# Altium integrated library Linear Technology Power Management Power Control.IntLib: 661 symbols (part 1 of 43)
Pins are listed as number, name and electrical type; pins without a type are passive.

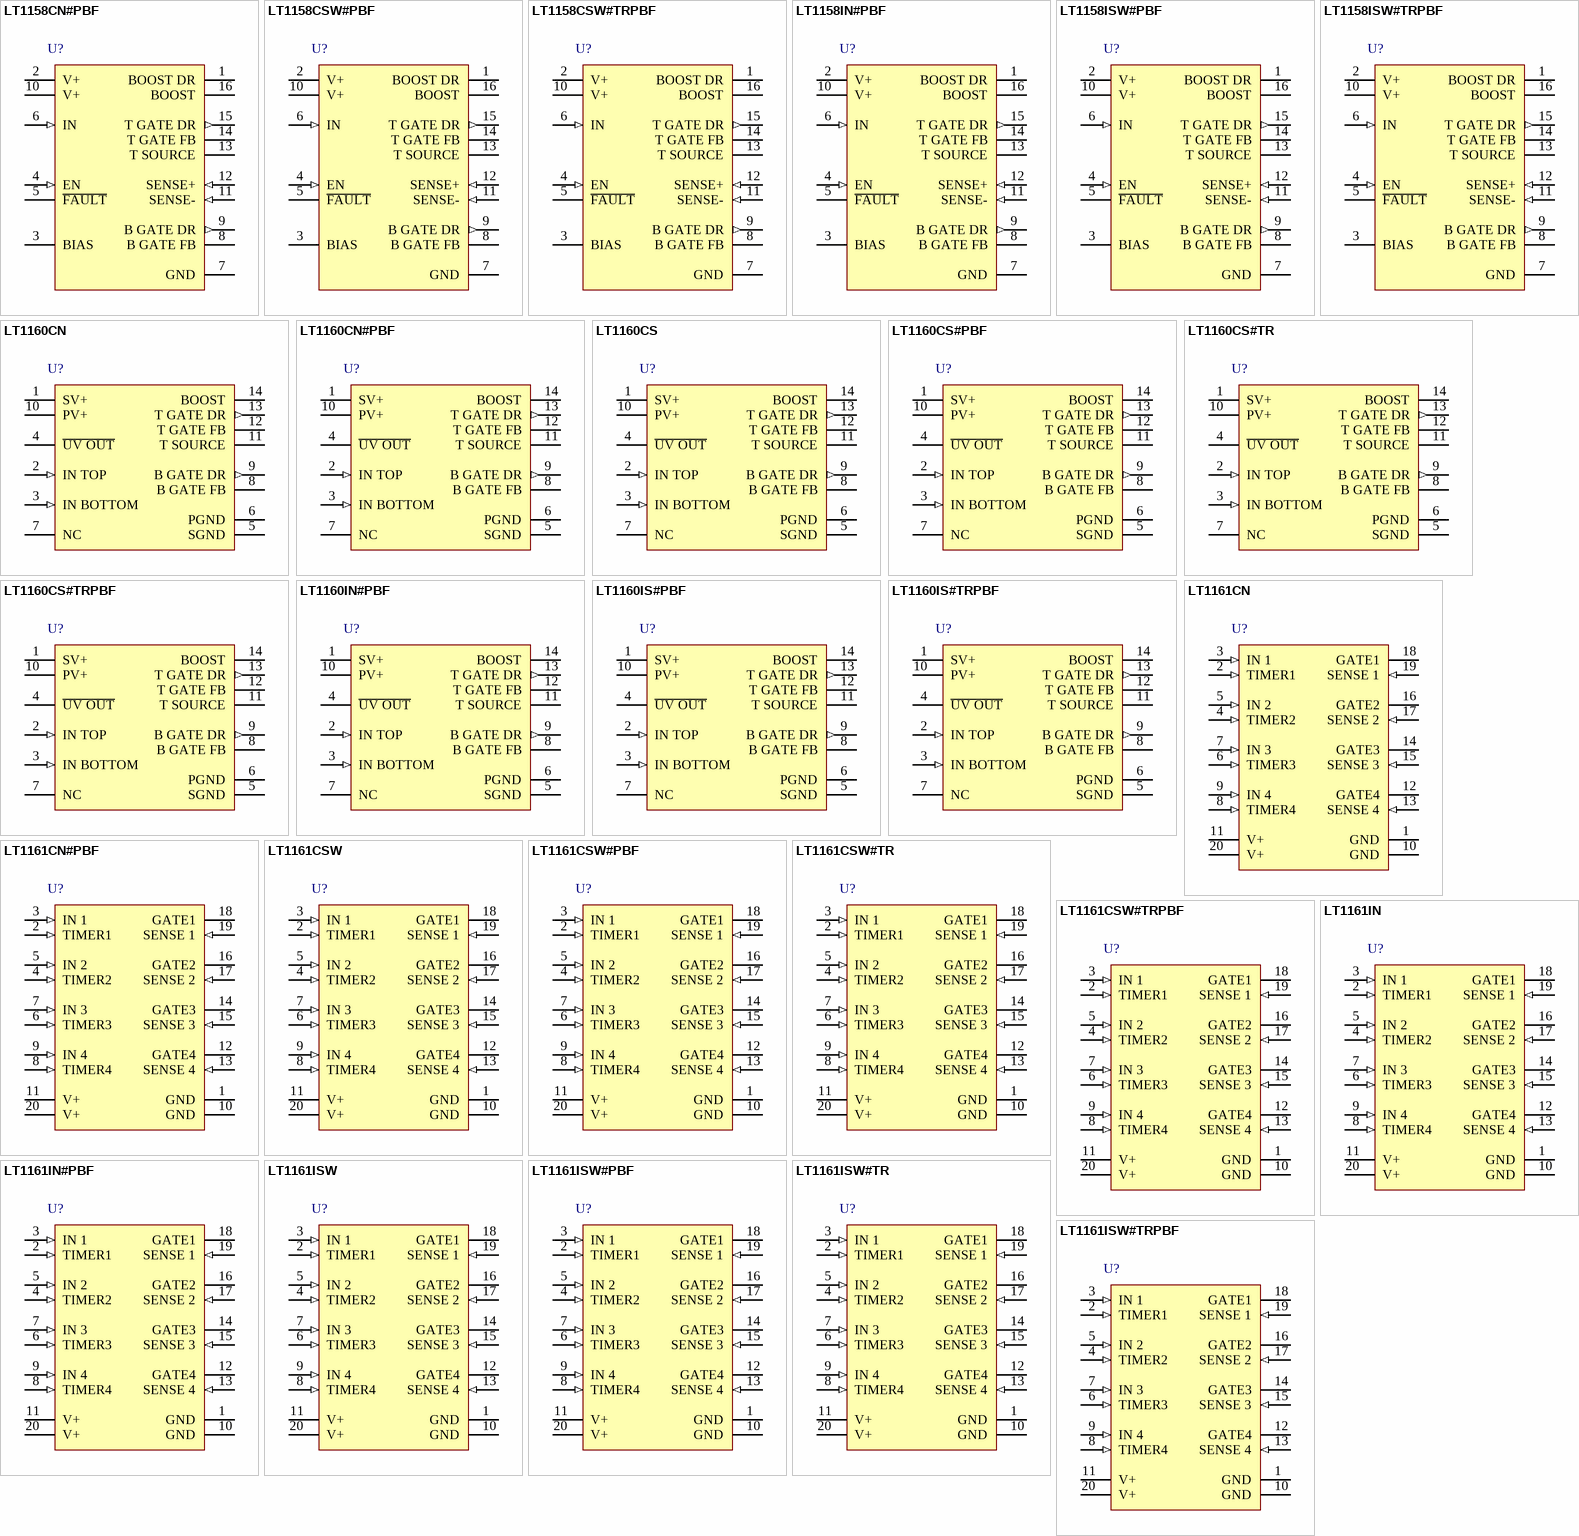
[diagram p0: symbols LT1158CN#PBF to LT1161ISW#TRPBF]

## LT1158CN#PBF
designator U?
On-Chip Charge Pump, Drives N-Channel MOSFET, 4.5 to 36 V Vin, 16-pin DIP (N-16), -40 to 85 degC, Pb-Free; Manufacturer: Linear Technology; PartNumber: LT1158CN#PBF; DatasheetVersion: Rev. B; PackageVersion: Rev. I, 07/2011; PackageReference: N-16; PackageDescription: 16-Pin PDIP, Body 19.56 x 6.48 mm, Pitch 2.54 mm; Supplier 1: Digi-Key; Supplier Part Number 1: LT1158CN#PBF-ND; Supplier 2: Newark; Supplier Part Number 2: 57M2239; RoHS: TRUE; Mounting Technology: Through Hole; ComponentLink1Description: Manufacturer URL; ComponentLink1URL: http://www.linear.com/; ComponentLink2Description: Datasheet; ComponentLink2URL: http://cds.linear.com/docs/en/datasheet/1158fb.pdf; ComponentLink3Description: Package Specification; ComponentLink3URL: http://cds.linear.com/docs/en/packaging/05081510_I_N16.pdf
footprint LT-N-16 (DIP, 16-Leads, Body 19.56x6.48mm, Pitch 2.54mm)
pins: 1 BOOST DR (power) "Recharges and clamps the bootstrap capacitor to 14.5V higher than pin 13 via an external diode.", 2 V+ (power) "Main supply pin; must be closely decoupled to the ground pin 7.", 3 BIAS "Decouple point for the internal 2.6V bias generator. Pin 3 cannot have any external DC loading.", 4 EN (in) "When left open, the LT1158 operates normally. Pulling pin 4 low holds both MOSFETs off regardless of the input state.", 5 ~{FAULT} (oc) "Open collector NPN output which turns on when V12 - V11 exceeds the fault conduction threshold.", 6 IN (in) "Taking pin 6 high turns the top MOSFET on and bottom MOSFET off; pin 6 low reverses these states. An input latch captures each low state, ignoring an ensuing high until pin 13 has gone below 2.6V.", 7 GND (power), 8 B GATE FB "Must connect directly to the bottom power MOSFET gate. The top MOSFET turn-on is inhibited until pin 8 has discharged to 1.5V. A hold-on current source also feeds the bottom gate via pin 8.", 9 B GATE DR (out) "The high current drive point for the bottom MOSFET. When a gate resistor is used, it is inserted between pin 9 and the gate of the MOSFET.", 10 V+ (power) "Bottom side driver supply; must be connected to the same supply as pin 2.", 11 SENSE- (in) "The floating reference for the current limit comparator. Connects to the low side of a current shunt or Kelvin lead of a current-sensing MOSFET. When pin 11 is within 1.2V of V+, current limit is inhibited.", 12 SENSE+ (in) "Connects to the high side of the current shunt or sense lead of a current-sensing MOSFET. A built-in offset between pins 11 and 12 in conjunction with RSENSE sets the top MOSFET short-circuit current.", 13 T SOURCE "Top side driver return; connects to MOSFET source and low side of the bootstrap capacitor.", 14 T GATE FB "Must connect directly to the top power MOSFET gate. The bottom MOSFET turn-on is inhibited until V14 - V13 has discharged to 1.75V. An on-chip charge pump also feeds the top gate via pin 14.", 15 T GATE DR (out) "The high current drive point for the top MOSFET. When a gate resistor is used, it is inserted between pin 15 and the gate of the MOSFET.", 16 BOOST "Top side driver supply; connects to the high side of the bootstrap capacitor and to a diode either from supply (V+ < 10V) or from pin 1 (V+ > 10V)."

## LT1158CSW#PBF
designator U?
On-Chip Charge Pump, Drives N-Channel MOSFET, 4.5 to 36 V Vin, 16-pin SOIC (SW-16), -40 to 85 degC, Pb-Free; Manufacturer: Linear Technology; PartNumber: LT1158CSW#PBF; DatasheetVersion: Rev. B; PackageVersion: Jun-10; PackageReference: SW-16; PackageDescription: 16-Pin Plastic Small Outline, Body 10.30 x 7.49 mm, Pitch 1.27 mm; Supplier 1: Digi-Key; Supplier Part Number 1: LT1158CSW#PBF-ND; Supplier 2: Farnell; Supplier Part Number 2: 1273473; Supplier 3: Newark; Supplier Part Number 3: 57M2241; RoHS: TRUE; Mounting Technology: Surface Mount; ComponentLink1Description: Manufacturer URL; ComponentLink1URL: http://www.linear.com/; ComponentLink2Description: Datasheet; ComponentLink2URL: http://cds.linear.com/docs/en/datasheet/1158fb.pdf; ComponentLink3Description: Package Specification; ComponentLink3URL: http://www.linear.com/docs/en/packaging/SO_16_05-08-1620.pdf
footprint LT-SW-16_N (SOIC, 16-Leads, Body 10.3x7.49mm, Pitch 1.27mm, IPC Medium Density)
footprint LT-SW-16_L (SOIC, 16-Leads, Body 10.3x7.49mm, Pitch 1.27mm, IPC High Density)
footprint LT-SW-16_M (SOIC, 16-Leads, Body 10.3x7.49mm, Pitch 1.27mm, IPC Low Density)
pins: 1 BOOST DR (power) "Recharges and clamps the bootstrap capacitor to 14.5V higher than pin 13 via an external diode.", 2 V+ (power) "Main supply pin; must be closely decoupled to the ground pin 7.", 3 BIAS "Decouple point for the internal 2.6V bias generator. Pin 3 cannot have any external DC loading.", 4 EN (in) "When left open, the LT1158 operates normally. Pulling pin 4 low holds both MOSFETs off regardless of the input state.", 5 ~{FAULT} (oc) "Open collector NPN output which turns on when V12 - V11 exceeds the fault conduction threshold.", 6 IN (in) "Taking pin 6 high turns the top MOSFET on and bottom MOSFET off; pin 6 low reverses these states. An input latch captures each low state, ignoring an ensuing high until pin 13 has gone below 2.6V.", 7 GND (power), 8 B GATE FB "Must connect directly to the bottom power MOSFET gate. The top MOSFET turn-on is inhibited until pin 8 has discharged to 1.5V. A hold-on current source also feeds the bottom gate via pin 8.", 9 B GATE DR (out) "The high current drive point for the bottom MOSFET. When a gate resistor is used, it is inserted between pin 9 and the gate of the MOSFET.", 10 V+ (power) "Bottom side driver supply; must be connected to the same supply as pin 2.", 11 SENSE- (in) "The floating reference for the current limit comparator. Connects to the low side of a current shunt or Kelvin lead of a current-sensing MOSFET. When pin 11 is within 1.2V of V+, current limit is inhibited.", 12 SENSE+ (in) "Connects to the high side of the current shunt or sense lead of a current-sensing MOSFET. A built-in offset between pins 11 and 12 in conjunction with RSENSE sets the top MOSFET short-circuit current.", 13 T SOURCE "Top side driver return; connects to MOSFET source and low side of the bootstrap capacitor.", 14 T GATE FB "Must connect directly to the top power MOSFET gate. The bottom MOSFET turn-on is inhibited until V14 - V13 has discharged to 1.75V. An on-chip charge pump also feeds the top gate via pin 14.", 15 T GATE DR (out) "The high current drive point for the top MOSFET. When a gate resistor is used, it is inserted between pin 15 and the gate of the MOSFET.", 16 BOOST "Top side driver supply; connects to the high side of the bootstrap capacitor and to a diode either from supply (V+ < 10V) or from pin 1 (V+ > 10V)."

## LT1158CSW#TRPBF
designator U?
On-Chip Charge Pump, Drives N-Channel MOSFET, 4.5 to 36 V Vin, 16-pin SOIC (SW-16), -40 to 85 degC, Pb-Free, Tape and Reel; Manufacturer: Linear Technology; PartNumber: LT1158CSW#TRPBF; DatasheetVersion: Rev. B; PackageVersion: Jun-10; PackageReference: SW-16; PackageDescription: 16-Pin Plastic Small Outline, Body 10.30 x 7.49 mm, Pitch 1.27 mm; Supplier 1: Digi-Key; Supplier Part Number 1: LT1158CSW#TRPBF-ND; Supplier 2: Newark; Supplier Part Number 2: 57M2243; Packing: Tape and Reel; RoHS: TRUE; Mounting Technology: Surface Mount; ComponentLink1Description: Manufacturer URL; ComponentLink1URL: http://www.linear.com/; ComponentLink2Description: Datasheet; ComponentLink2URL: http://cds.linear.com/docs/en/datasheet/1158fb.pdf; ComponentLink3Description: Package Specification; ComponentLink3URL: http://www.linear.com/docs/en/packaging/SO_16_05-08-1620.pdf
footprint LT-SW-16_N (SOIC, 16-Leads, Body 10.3x7.49mm, Pitch 1.27mm, IPC Medium Density)
footprint LT-SW-16_L (SOIC, 16-Leads, Body 10.3x7.49mm, Pitch 1.27mm, IPC High Density)
footprint LT-SW-16_M (SOIC, 16-Leads, Body 10.3x7.49mm, Pitch 1.27mm, IPC Low Density)
pins: 1 BOOST DR (power) "Recharges and clamps the bootstrap capacitor to 14.5V higher than pin 13 via an external diode.", 2 V+ (power) "Main supply pin; must be closely decoupled to the ground pin 7.", 3 BIAS "Decouple point for the internal 2.6V bias generator. Pin 3 cannot have any external DC loading.", 4 EN (in) "When left open, the LT1158 operates normally. Pulling pin 4 low holds both MOSFETs off regardless of the input state.", 5 ~{FAULT} (oc) "Open collector NPN output which turns on when V12 - V11 exceeds the fault conduction threshold.", 6 IN (in) "Taking pin 6 high turns the top MOSFET on and bottom MOSFET off; pin 6 low reverses these states. An input latch captures each low state, ignoring an ensuing high until pin 13 has gone below 2.6V.", 7 GND (power), 8 B GATE FB "Must connect directly to the bottom power MOSFET gate. The top MOSFET turn-on is inhibited until pin 8 has discharged to 1.5V. A hold-on current source also feeds the bottom gate via pin 8.", 9 B GATE DR (out) "The high current drive point for the bottom MOSFET. When a gate resistor is used, it is inserted between pin 9 and the gate of the MOSFET.", 10 V+ (power) "Bottom side driver supply; must be connected to the same supply as pin 2.", 11 SENSE- (in) "The floating reference for the current limit comparator. Connects to the low side of a current shunt or Kelvin lead of a current-sensing MOSFET. When pin 11 is within 1.2V of V+, current limit is inhibited.", 12 SENSE+ (in) "Connects to the high side of the current shunt or sense lead of a current-sensing MOSFET. A built-in offset between pins 11 and 12 in conjunction with RSENSE sets the top MOSFET short-circuit current.", 13 T SOURCE "Top side driver return; connects to MOSFET source and low side of the bootstrap capacitor.", 14 T GATE FB "Must connect directly to the top power MOSFET gate. The bottom MOSFET turn-on is inhibited until V14 - V13 has discharged to 1.75V. An on-chip charge pump also feeds the top gate via pin 14.", 15 T GATE DR (out) "The high current drive point for the top MOSFET. When a gate resistor is used, it is inserted between pin 15 and the gate of the MOSFET.", 16 BOOST "Top side driver supply; connects to the high side of the bootstrap capacitor and to a diode either from supply (V+ < 10V) or from pin 1 (V+ > 10V)."

## LT1158IN#PBF
designator U?
Half Bridge N-Channel Power MOSFET Driver, 4.5 to 36 V Vin, 16-pin DIP (N-16), -40 to 85 degC, Pb-Free; Manufacturer: Linear Technology; PartNumber: LT1158IN#PBF; DatasheetVersion: Rev. B; PackageVersion: Rev. I, 07/2011; PackageReference: N-16; PackageDescription: 16-Pin PDIP, Body 19.56 x 6.48 mm, Pitch 2.54 mm; Supplier 1: Digi-Key; Supplier Part Number 1: LT1158IN#PBF-ND; Supplier 2: Newark; Supplier Part Number 2: 57M2245; RoHS: TRUE; Mounting Technology: Through Hole; ComponentLink1Description: Manufacturer URL; ComponentLink1URL: http://www.linear.com/; ComponentLink2Description: Datasheet; ComponentLink2URL: http://cds.linear.com/docs/en/datasheet/1158fb.pdf; ComponentLink3Description: Package Specification; ComponentLink3URL: http://cds.linear.com/docs/en/packaging/05081510_I_N16.pdf
footprint LT-N-16 (DIP, 16-Leads, Body 19.56x6.48mm, Pitch 2.54mm)
pins: 1 BOOST DR (power) "Recharges and clamps the bootstrap capacitor to 14.5V higher than pin 13 via an external diode.", 2 V+ (power) "Main supply pin; must be closely decoupled to the ground pin 7.", 3 BIAS "Decouple point for the internal 2.6V bias generator. Pin 3 cannot have any external DC loading.", 4 EN (in) "When left open, the LT1158 operates normally. Pulling pin 4 low holds both MOSFETs off regardless of the input state.", 5 ~{FAULT} (oc) "Open collector NPN output which turns on when V12 - V11 exceeds the fault conduction threshold.", 6 IN (in) "Taking pin 6 high turns the top MOSFET on and bottom MOSFET off; pin 6 low reverses these states. An input latch captures each low state, ignoring an ensuing high until pin 13 has gone below 2.6V.", 7 GND (power), 8 B GATE FB "Must connect directly to the bottom power MOSFET gate. The top MOSFET turn-on is inhibited until pin 8 has discharged to 1.5V. A hold-on current source also feeds the bottom gate via pin 8.", 9 B GATE DR (out) "The high current drive point for the bottom MOSFET. When a gate resistor is used, it is inserted between pin 9 and the gate of the MOSFET.", 10 V+ (power) "Bottom side driver supply; must be connected to the same supply as pin 2.", 11 SENSE- (in) "The floating reference for the current limit comparator. Connects to the low side of a current shunt or Kelvin lead of a current-sensing MOSFET. When pin 11 is within 1.2V of V+, current limit is inhibited.", 12 SENSE+ (in) "Connects to the high side of the current shunt or sense lead of a current-sensing MOSFET. A built-in offset between pins 11 and 12 in conjunction with RSENSE sets the top MOSFET short-circuit current.", 13 T SOURCE "Top side driver return; connects to MOSFET source and low side of the bootstrap capacitor.", 14 T GATE FB "Must connect directly to the top power MOSFET gate. The bottom MOSFET turn-on is inhibited until V14 - V13 has discharged to 1.75V. An on-chip charge pump also feeds the top gate via pin 14.", 15 T GATE DR (out) "The high current drive point for the top MOSFET. When a gate resistor is used, it is inserted between pin 15 and the gate of the MOSFET.", 16 BOOST "Top side driver supply; connects to the high side of the bootstrap capacitor and to a diode either from supply (V+ < 10V) or from pin 1 (V+ > 10V)."

## LT1158ISW#PBF
designator U?
Half Bridge N-Channel Power MOSFET Driver, 4.5 to 36 V Vin, 16-pin SOIC (SW-16), -40 to 85 degC, Pb-Free; Manufacturer: Linear Technology; PartNumber: LT1158ISW#PBF; DatasheetVersion: Rev. B; PackageVersion: Jun-10; PackageReference: SW-16; PackageDescription: 16-Pin Plastic Small Outline, Body 10.30 x 7.49 mm, Pitch 1.27 mm; Supplier 1: Digi-Key; Supplier Part Number 1: LT1158ISW#PBF-ND; Supplier 2: Farnell; Supplier Part Number 2: 2238152; Supplier 3: Newark; Supplier Part Number 3: 57M2247; RoHS: TRUE; Mounting Technology: Surface Mount; ComponentLink1Description: Manufacturer URL; ComponentLink1URL: http://www.linear.com/; ComponentLink2Description: Datasheet; ComponentLink2URL: http://cds.linear.com/docs/en/datasheet/1158fb.pdf; ComponentLink3Description: Package Specification; ComponentLink3URL: http://www.linear.com/docs/en/packaging/SO_16_05-08-1620.pdf
footprint LT-SW-16_N (SOIC, 16-Leads, Body 10.3x7.49mm, Pitch 1.27mm, IPC Medium Density)
footprint LT-SW-16_L (SOIC, 16-Leads, Body 10.3x7.49mm, Pitch 1.27mm, IPC High Density)
footprint LT-SW-16_M (SOIC, 16-Leads, Body 10.3x7.49mm, Pitch 1.27mm, IPC Low Density)
pins: 1 BOOST DR (power) "Recharges and clamps the bootstrap capacitor to 14.5V higher than pin 13 via an external diode.", 2 V+ (power) "Main supply pin; must be closely decoupled to the ground pin 7.", 3 BIAS "Decouple point for the internal 2.6V bias generator. Pin 3 cannot have any external DC loading.", 4 EN (in) "When left open, the LT1158 operates normally. Pulling pin 4 low holds both MOSFETs off regardless of the input state.", 5 ~{FAULT} (oc) "Open collector NPN output which turns on when V12 - V11 exceeds the fault conduction threshold.", 6 IN (in) "Taking pin 6 high turns the top MOSFET on and bottom MOSFET off; pin 6 low reverses these states. An input latch captures each low state, ignoring an ensuing high until pin 13 has gone below 2.6V.", 7 GND (power), 8 B GATE FB "Must connect directly to the bottom power MOSFET gate. The top MOSFET turn-on is inhibited until pin 8 has discharged to 1.5V. A hold-on current source also feeds the bottom gate via pin 8.", 9 B GATE DR (out) "The high current drive point for the bottom MOSFET. When a gate resistor is used, it is inserted between pin 9 and the gate of the MOSFET.", 10 V+ (power) "Bottom side driver supply; must be connected to the same supply as pin 2.", 11 SENSE- (in) "The floating reference for the current limit comparator. Connects to the low side of a current shunt or Kelvin lead of a current-sensing MOSFET. When pin 11 is within 1.2V of V+, current limit is inhibited.", 12 SENSE+ (in) "Connects to the high side of the current shunt or sense lead of a current-sensing MOSFET. A built-in offset between pins 11 and 12 in conjunction with RSENSE sets the top MOSFET short-circuit current.", 13 T SOURCE "Top side driver return; connects to MOSFET source and low side of the bootstrap capacitor.", 14 T GATE FB "Must connect directly to the top power MOSFET gate. The bottom MOSFET turn-on is inhibited until V14 - V13 has discharged to 1.75V. An on-chip charge pump also feeds the top gate via pin 14.", 15 T GATE DR (out) "The high current drive point for the top MOSFET. When a gate resistor is used, it is inserted between pin 15 and the gate of the MOSFET.", 16 BOOST "Top side driver supply; connects to the high side of the bootstrap capacitor and to a diode either from supply (V+ < 10V) or from pin 1 (V+ > 10V)."

## LT1158ISW#TRPBF
designator U?
Half Bridge N-Channel Power MOSFET Driver, 4.5 to 36 V Vin, 16-pin SOIC (SW-16), -40 to 85 degC, Pb-Free, Tape and Reel; Manufacturer: Linear Technology; PartNumber: LT1158ISW#TRPBF; DatasheetVersion: Rev. B; PackageVersion: Jun-10; PackageReference: SW-16; PackageDescription: 16-Pin Plastic Small Outline, Body 10.30 x 7.49 mm, Pitch 1.27 mm; Supplier 1: Digi-Key; Supplier Part Number 1: LT1158ISW#TRPBF-ND; Supplier 2: Newark; Supplier Part Number 2: 57M2249; Packing: Tape and Reel; RoHS: TRUE; Mounting Technology: Surface Mount; ComponentLink1Description: Manufacturer URL; ComponentLink1URL: http://www.linear.com/; ComponentLink2Description: Datasheet; ComponentLink2URL: http://cds.linear.com/docs/en/datasheet/1158fb.pdf; ComponentLink3Description: Package Specification; ComponentLink3URL: http://www.linear.com/docs/en/packaging/SO_16_05-08-1620.pdf
footprint LT-SW-16_N (SOIC, 16-Leads, Body 10.3x7.49mm, Pitch 1.27mm, IPC Medium Density)
footprint LT-SW-16_L (SOIC, 16-Leads, Body 10.3x7.49mm, Pitch 1.27mm, IPC High Density)
footprint LT-SW-16_M (SOIC, 16-Leads, Body 10.3x7.49mm, Pitch 1.27mm, IPC Low Density)
pins: 1 BOOST DR (power) "Recharges and clamps the bootstrap capacitor to 14.5V higher than pin 13 via an external diode.", 2 V+ (power) "Main supply pin; must be closely decoupled to the ground pin 7.", 3 BIAS "Decouple point for the internal 2.6V bias generator. Pin 3 cannot have any external DC loading.", 4 EN (in) "When left open, the LT1158 operates normally. Pulling pin 4 low holds both MOSFETs off regardless of the input state.", 5 ~{FAULT} (oc) "Open collector NPN output which turns on when V12 - V11 exceeds the fault conduction threshold.", 6 IN (in) "Taking pin 6 high turns the top MOSFET on and bottom MOSFET off; pin 6 low reverses these states. An input latch captures each low state, ignoring an ensuing high until pin 13 has gone below 2.6V.", 7 GND (power), 8 B GATE FB "Must connect directly to the bottom power MOSFET gate. The top MOSFET turn-on is inhibited until pin 8 has discharged to 1.5V. A hold-on current source also feeds the bottom gate via pin 8.", 9 B GATE DR (out) "The high current drive point for the bottom MOSFET. When a gate resistor is used, it is inserted between pin 9 and the gate of the MOSFET.", 10 V+ (power) "Bottom side driver supply; must be connected to the same supply as pin 2.", 11 SENSE- (in) "The floating reference for the current limit comparator. Connects to the low side of a current shunt or Kelvin lead of a current-sensing MOSFET. When pin 11 is within 1.2V of V+, current limit is inhibited.", 12 SENSE+ (in) "Connects to the high side of the current shunt or sense lead of a current-sensing MOSFET. A built-in offset between pins 11 and 12 in conjunction with RSENSE sets the top MOSFET short-circuit current.", 13 T SOURCE "Top side driver return; connects to MOSFET source and low side of the bootstrap capacitor.", 14 T GATE FB "Must connect directly to the top power MOSFET gate. The bottom MOSFET turn-on is inhibited until V14 - V13 has discharged to 1.75V. An on-chip charge pump also feeds the top gate via pin 14.", 15 T GATE DR (out) "The high current drive point for the top MOSFET. When a gate resistor is used, it is inserted between pin 15 and the gate of the MOSFET.", 16 BOOST "Top side driver supply; connects to the high side of the bootstrap capacitor and to a diode either from supply (V+ < 10V) or from pin 1 (V+ > 10V)."

## LT1160CN
designator U?
Input UV Lockout, High Side Gate Drive UV Lockout, 9 to 60 V Vin, 14-pin DIP (N-14), 0 to 70 degC; Manufacturer: Linear Technology; PartNumber: LT1160CN; DatasheetVersion: Rev. B; PackageVersion: Rev. I, 07/2011; PackageReference: N-14; PackageDescription: 14-Pin PDIP, Body 19.558 x 6.477 mm, Pitch 2.54 mm; Supplier 1: Digi-Key; Supplier Part Number 1: LT1160CN-ND; RoHS: FALSE; Mounting Technology: Through Hole; ComponentLink1Description: Manufacturer URL; ComponentLink1URL: http://www.linear.com/; ComponentLink2Description: Datasheet; ComponentLink2URL: http://cds.linear.com/docs/en/datasheet/11602fb.pdf; ComponentLink3Description: Package Specification; ComponentLink3URL: http://cds.linear.com/docs/en/packaging/05081510_I_N14.pdf
footprint LT-N-14 (DIP, 14-Leads, Body 19.558x6.477mm, Pitch 2.54mm)
pins: 1 SV+ (power) "Main Signal Supply. Must be closely decoupled to the signal ground Pin 5.", 2 IN TOP (in) "Top Driver Input. Pin 2 is disabled when Pin 3 is high. A 3k input resistor followed by a 5V internal clamp prevents saturation of the input transistors.", 3 IN BOTTOM (in) "Bottom Driver Input. Pin 3 is disabled when Pin 2 is high. A 3k input resistor followed by a 5V internal clamp prevents saturation of the input transistors.", 4 ~{UV OUT} (oc) "Undervoltage Output. Open collector NPN output which turns on when V + drops below the undervoltage threshold.", 5 SGND (power) "Small Signal Ground. Must be routed separately from other grounds to the system ground.", 6 PGND (power) "Bottom Driver Power Ground. Connects to source of bottom N-channel MOSFET.", 7 NC, 8 B GATE FB "Bottom Gate Feedback. Must connect directly to the bottom power MOSFET gate. The top MOSFET turn-on is inhibited until Pin 8 has discharged to below 2.5V.", 9 B GATE DR (out) "Bottom Gate Drive. The high current drive point for the bottom MOSFET. When a gate resistor is used it is inserted between Pin 9 and the gate of the MOSFET.", 10 PV+ (power) "Bottom Driver Supply. Must be connected to the same supply as Pin 1.", 11 T SOURCE "Top Driver Return. Connects to the top MOSFET source and the low side of the bootstrap capacitor.", 12 T GATE FB "Top Gate Feedback. Must connect directly to the top power MOSFET gate. The bottom MOSFET turn-on is inhibited until V12 - V11 has discharged to below 2.9V.", 13 T GATE DR (out) "Top Gate Drive. The high current drive point for the top MOSFET. When a gate resistor is used it is inserted between Pin 13 and the gate of the MOSFET.", 14 BOOST "Top Driver Supply. Connects to the high side of the bootstrap capacitor."

## LT1160CN#PBF
designator U?
Input UV Lockout, High Side Gate Drive UV Lockout, 9 to 60 V Vin, 14-pin DIP (N-14), 0 to 70 degC, Pb-Free; Manufacturer: Linear Technology; PartNumber: LT1160CN#PBF; DatasheetVersion: Rev. B; PackageVersion: Rev. I, 07/2011; PackageReference: N-14; PackageDescription: 14-Pin PDIP, Body 19.558 x 6.477 mm, Pitch 2.54 mm; Supplier 1: Digi-Key; Supplier Part Number 1: LT1160CN#PBF-ND; RoHS: TRUE; Mounting Technology: Through Hole; ComponentLink1Description: Manufacturer URL; ComponentLink1URL: http://www.linear.com/; ComponentLink2Description: Datasheet; ComponentLink2URL: http://cds.linear.com/docs/en/datasheet/11602fb.pdf; ComponentLink3Description: Package Specification; ComponentLink3URL: http://cds.linear.com/docs/en/packaging/05081510_I_N14.pdf
footprint LT-N-14 (DIP, 14-Leads, Body 19.558x6.477mm, Pitch 2.54mm)
pins: 1 SV+ (power) "Main Signal Supply. Must be closely decoupled to the signal ground Pin 5.", 2 IN TOP (in) "Top Driver Input. Pin 2 is disabled when Pin 3 is high. A 3k input resistor followed by a 5V internal clamp prevents saturation of the input transistors.", 3 IN BOTTOM (in) "Bottom Driver Input. Pin 3 is disabled when Pin 2 is high. A 3k input resistor followed by a 5V internal clamp prevents saturation of the input transistors.", 4 ~{UV OUT} (oc) "Undervoltage Output. Open collector NPN output which turns on when V + drops below the undervoltage threshold.", 5 SGND (power) "Small Signal Ground. Must be routed separately from other grounds to the system ground.", 6 PGND (power) "Bottom Driver Power Ground. Connects to source of bottom N-channel MOSFET.", 7 NC, 8 B GATE FB "Bottom Gate Feedback. Must connect directly to the bottom power MOSFET gate. The top MOSFET turn-on is inhibited until Pin 8 has discharged to below 2.5V.", 9 B GATE DR (out) "Bottom Gate Drive. The high current drive point for the bottom MOSFET. When a gate resistor is used it is inserted between Pin 9 and the gate of the MOSFET.", 10 PV+ (power) "Bottom Driver Supply. Must be connected to the same supply as Pin 1.", 11 T SOURCE "Top Driver Return. Connects to the top MOSFET source and the low side of the bootstrap capacitor.", 12 T GATE FB "Top Gate Feedback. Must connect directly to the top power MOSFET gate. The bottom MOSFET turn-on is inhibited until V12 - V11 has discharged to below 2.9V.", 13 T GATE DR (out) "Top Gate Drive. The high current drive point for the top MOSFET. When a gate resistor is used it is inserted between Pin 13 and the gate of the MOSFET.", 14 BOOST "Top Driver Supply. Connects to the high side of the bootstrap capacitor."

## LT1160CS
designator U?
Input UV Lockout, High Side Gate Drive UV Lockout, 9 to 60 V Vin, 14-pin SOIC (S-14), 0 to 70 degC, Pb-Free, Tape and Reel; Manufacturer: Linear Technology; PartNumber: LT1160CS; DatasheetVersion: Rev. B; PackageVersion: Rev. G, 03/2012; PackageReference: S-14; PackageDescription: 14-Pin Plastic Small Outline, Body 8.65 x 3.9 mm, Pitch 1.27 mm; Supplier 1: Digi-Key; Supplier Part Number 1: LT1160CS-ND; RoHS: FALSE; Mounting Technology: Surface Mount; ComponentLink1Description: Manufacturer URL; ComponentLink1URL: http://www.linear.com/; ComponentLink2Description: Datasheet; ComponentLink2URL: http://cds.linear.com/docs/en/datasheet/11602fb.pdf; ComponentLink3Description: Package Specification; ComponentLink3URL: http://cds.linear.com/docs/en/packaging/05081610_G_S14.pdf
footprint LT-S-14_N (SOIC, 14-Leads, Body 8.7x4mm, Pitch 1.27mm, IPC Medium Density)
footprint LT-S-14_L (SOIC, 14-Leads, Body 8.7x4mm, Pitch 1.27mm, IPC High Density)
footprint LT-S-14_M (SOIC, 14-Leads, Body 8.7x4mm, Pitch 1.27mm, IPC Low Density)
pins: 1 SV+ (power) "Main Signal Supply. Must be closely decoupled to the signal ground Pin 5.", 2 IN TOP (in) "Top Driver Input. Pin 2 is disabled when Pin 3 is high. A 3k input resistor followed by a 5V internal clamp prevents saturation of the input transistors.", 3 IN BOTTOM (in) "Bottom Driver Input. Pin 3 is disabled when Pin 2 is high. A 3k input resistor followed by a 5V internal clamp prevents saturation of the input transistors.", 4 ~{UV OUT} (oc) "Undervoltage Output. Open collector NPN output which turns on when V + drops below the undervoltage threshold.", 5 SGND (power) "Small Signal Ground. Must be routed separately from other grounds to the system ground.", 6 PGND (power) "Bottom Driver Power Ground. Connects to source of bottom N-channel MOSFET.", 7 NC, 8 B GATE FB "Bottom Gate Feedback. Must connect directly to the bottom power MOSFET gate. The top MOSFET turn-on is inhibited until Pin 8 has discharged to below 2.5V.", 9 B GATE DR (out) "Bottom Gate Drive. The high current drive point for the bottom MOSFET. When a gate resistor is used it is inserted between Pin 9 and the gate of the MOSFET.", 10 PV+ (power) "Bottom Driver Supply. Must be connected to the same supply as Pin 1.", 11 T SOURCE "Top Driver Return. Connects to the top MOSFET source and the low side of the bootstrap capacitor.", 12 T GATE FB "Top Gate Feedback. Must connect directly to the top power MOSFET gate. The bottom MOSFET turn-on is inhibited until V12 - V11 has discharged to below 2.9V.", 13 T GATE DR (out) "Top Gate Drive. The high current drive point for the top MOSFET. When a gate resistor is used it is inserted between Pin 13 and the gate of the MOSFET.", 14 BOOST "Top Driver Supply. Connects to the high side of the bootstrap capacitor."

## LT1160CS#PBF
designator U?
Input UV Lockout, High Side Gate Drive UV Lockout, 9 to 60 V Vin, 14-pin SOIC (S-14), 0 to 70 degC, Pb-Free; Manufacturer: Linear Technology; PartNumber: LT1160CS#PBF; DatasheetVersion: Rev. B; PackageVersion: Rev. G, 03/2012; PackageReference: S-14; PackageDescription: 14-Pin Plastic Small Outline, Body 8.65 x 3.9 mm, Pitch 1.27 mm; Supplier 1: Digi-Key; Supplier Part Number 1: LT1160CS#PBF-ND; Supplier 2: Farnell; Supplier Part Number 2: 1273475; Supplier 3: Newark; Supplier Part Number 3: 57M2253; RoHS: TRUE; Mounting Technology: Surface Mount; ComponentLink1Description: Manufacturer URL; ComponentLink1URL: http://www.linear.com/; ComponentLink2Description: Datasheet; ComponentLink2URL: http://cds.linear.com/docs/en/datasheet/11602fb.pdf; ComponentLink3Description: Package Specification; ComponentLink3URL: http://cds.linear.com/docs/en/packaging/05081610_G_S14.pdf
footprint LT-S-14_N (SOIC, 14-Leads, Body 8.7x4mm, Pitch 1.27mm, IPC Medium Density)
footprint LT-S-14_L (SOIC, 14-Leads, Body 8.7x4mm, Pitch 1.27mm, IPC High Density)
footprint LT-S-14_M (SOIC, 14-Leads, Body 8.7x4mm, Pitch 1.27mm, IPC Low Density)
pins: 1 SV+ (power) "Main Signal Supply. Must be closely decoupled to the signal ground Pin 5.", 2 IN TOP (in) "Top Driver Input. Pin 2 is disabled when Pin 3 is high. A 3k input resistor followed by a 5V internal clamp prevents saturation of the input transistors.", 3 IN BOTTOM (in) "Bottom Driver Input. Pin 3 is disabled when Pin 2 is high. A 3k input resistor followed by a 5V internal clamp prevents saturation of the input transistors.", 4 ~{UV OUT} (oc) "Undervoltage Output. Open collector NPN output which turns on when V + drops below the undervoltage threshold.", 5 SGND (power) "Small Signal Ground. Must be routed separately from other grounds to the system ground.", 6 PGND (power) "Bottom Driver Power Ground. Connects to source of bottom N-channel MOSFET.", 7 NC, 8 B GATE FB "Bottom Gate Feedback. Must connect directly to the bottom power MOSFET gate. The top MOSFET turn-on is inhibited until Pin 8 has discharged to below 2.5V.", 9 B GATE DR (out) "Bottom Gate Drive. The high current drive point for the bottom MOSFET. When a gate resistor is used it is inserted between Pin 9 and the gate of the MOSFET.", 10 PV+ (power) "Bottom Driver Supply. Must be connected to the same supply as Pin 1.", 11 T SOURCE "Top Driver Return. Connects to the top MOSFET source and the low side of the bootstrap capacitor.", 12 T GATE FB "Top Gate Feedback. Must connect directly to the top power MOSFET gate. The bottom MOSFET turn-on is inhibited until V12 - V11 has discharged to below 2.9V.", 13 T GATE DR (out) "Top Gate Drive. The high current drive point for the top MOSFET. When a gate resistor is used it is inserted between Pin 13 and the gate of the MOSFET.", 14 BOOST "Top Driver Supply. Connects to the high side of the bootstrap capacitor."

## LT1160CS#TR
designator U?
Input UV Lockout, High Side Gate Drive UV Lockout, 9 to 60 V Vin, 14-pin SOIC (S-14), 0 to 70 degC, Tape and Reel; Manufacturer: Linear Technology; PartNumber: LT1160CS#TR; DatasheetVersion: Rev. B; PackageVersion: Rev. G, 03/2012; PackageReference: S-14; PackageDescription: 14-Pin Plastic Small Outline, Body 8.65 x 3.9 mm, Pitch 1.27 mm; Supplier 1: Digi-Key; Supplier Part Number 1: LT1160CS#TR-ND; Packing: Tape and Reel; RoHS: FALSE; Mounting Technology: Surface Mount; ComponentLink1Description: Manufacturer URL; ComponentLink1URL: http://www.linear.com/; ComponentLink2Description: Datasheet; ComponentLink2URL: http://cds.linear.com/docs/en/datasheet/11602fb.pdf; ComponentLink3Description: Package Specification; ComponentLink3URL: http://cds.linear.com/docs/en/packaging/05081610_G_S14.pdf
footprint LT-S-14_N (SOIC, 14-Leads, Body 8.7x4mm, Pitch 1.27mm, IPC Medium Density)
footprint LT-S-14_L (SOIC, 14-Leads, Body 8.7x4mm, Pitch 1.27mm, IPC High Density)
footprint LT-S-14_M (SOIC, 14-Leads, Body 8.7x4mm, Pitch 1.27mm, IPC Low Density)
pins: 1 SV+ (power) "Main Signal Supply. Must be closely decoupled to the signal ground Pin 5.", 2 IN TOP (in) "Top Driver Input. Pin 2 is disabled when Pin 3 is high. A 3k input resistor followed by a 5V internal clamp prevents saturation of the input transistors.", 3 IN BOTTOM (in) "Bottom Driver Input. Pin 3 is disabled when Pin 2 is high. A 3k input resistor followed by a 5V internal clamp prevents saturation of the input transistors.", 4 ~{UV OUT} (oc) "Undervoltage Output. Open collector NPN output which turns on when V + drops below the undervoltage threshold.", 5 SGND (power) "Small Signal Ground. Must be routed separately from other grounds to the system ground.", 6 PGND (power) "Bottom Driver Power Ground. Connects to source of bottom N-channel MOSFET.", 7 NC, 8 B GATE FB "Bottom Gate Feedback. Must connect directly to the bottom power MOSFET gate. The top MOSFET turn-on is inhibited until Pin 8 has discharged to below 2.5V.", 9 B GATE DR (out) "Bottom Gate Drive. The high current drive point for the bottom MOSFET. When a gate resistor is used it is inserted between Pin 9 and the gate of the MOSFET.", 10 PV+ (power) "Bottom Driver Supply. Must be connected to the same supply as Pin 1.", 11 T SOURCE "Top Driver Return. Connects to the top MOSFET source and the low side of the bootstrap capacitor.", 12 T GATE FB "Top Gate Feedback. Must connect directly to the top power MOSFET gate. The bottom MOSFET turn-on is inhibited until V12 - V11 has discharged to below 2.9V.", 13 T GATE DR (out) "Top Gate Drive. The high current drive point for the top MOSFET. When a gate resistor is used it is inserted between Pin 13 and the gate of the MOSFET.", 14 BOOST "Top Driver Supply. Connects to the high side of the bootstrap capacitor."

## LT1160CS#TRPBF
designator U?
Input UV Lockout, High Side Gate Drive UV Lockout, 9 to 60 V Vin, 14-pin SOIC (S-14), 0 to 70 degC, Pb-Free, Tape and Reel; Manufacturer: Linear Technology; PartNumber: LT1160CS#TRPBF; DatasheetVersion: Rev. B; PackageVersion: Rev. G, 03/2012; PackageReference: S-14; PackageDescription: 14-Pin Plastic Small Outline, Body 8.65 x 3.9 mm, Pitch 1.27 mm; Supplier 1: Digi-Key; Supplier Part Number 1: LT1160CS#TRPBF-ND; Packing: Tape and Reel; RoHS: TRUE; Mounting Technology: Surface Mount; ComponentLink1Description: Manufacturer URL; ComponentLink1URL: http://www.linear.com/; ComponentLink2Description: Datasheet; ComponentLink2URL: http://cds.linear.com/docs/en/datasheet/11602fb.pdf; ComponentLink3Description: Package Specification; ComponentLink3URL: http://cds.linear.com/docs/en/packaging/05081610_G_S14.pdf
footprint LT-S-14_N (SOIC, 14-Leads, Body 8.7x4mm, Pitch 1.27mm, IPC Medium Density)
footprint LT-S-14_L (SOIC, 14-Leads, Body 8.7x4mm, Pitch 1.27mm, IPC High Density)
footprint LT-S-14_M (SOIC, 14-Leads, Body 8.7x4mm, Pitch 1.27mm, IPC Low Density)
pins: 1 SV+ (power) "Main Signal Supply. Must be closely decoupled to the signal ground Pin 5.", 2 IN TOP (in) "Top Driver Input. Pin 2 is disabled when Pin 3 is high. A 3k input resistor followed by a 5V internal clamp prevents saturation of the input transistors.", 3 IN BOTTOM (in) "Bottom Driver Input. Pin 3 is disabled when Pin 2 is high. A 3k input resistor followed by a 5V internal clamp prevents saturation of the input transistors.", 4 ~{UV OUT} (oc) "Undervoltage Output. Open collector NPN output which turns on when V + drops below the undervoltage threshold.", 5 SGND (power) "Small Signal Ground. Must be routed separately from other grounds to the system ground.", 6 PGND (power) "Bottom Driver Power Ground. Connects to source of bottom N-channel MOSFET.", 7 NC, 8 B GATE FB "Bottom Gate Feedback. Must connect directly to the bottom power MOSFET gate. The top MOSFET turn-on is inhibited until Pin 8 has discharged to below 2.5V.", 9 B GATE DR (out) "Bottom Gate Drive. The high current drive point for the bottom MOSFET. When a gate resistor is used it is inserted between Pin 9 and the gate of the MOSFET.", 10 PV+ (power) "Bottom Driver Supply. Must be connected to the same supply as Pin 1.", 11 T SOURCE "Top Driver Return. Connects to the top MOSFET source and the low side of the bootstrap capacitor.", 12 T GATE FB "Top Gate Feedback. Must connect directly to the top power MOSFET gate. The bottom MOSFET turn-on is inhibited until V12 - V11 has discharged to below 2.9V.", 13 T GATE DR (out) "Top Gate Drive. The high current drive point for the top MOSFET. When a gate resistor is used it is inserted between Pin 13 and the gate of the MOSFET.", 14 BOOST "Top Driver Supply. Connects to the high side of the bootstrap capacitor."

## LT1160IN#PBF
designator U?
Input UV Lockout, High Side Gate Drive UV Lockout, 9 to 60 V Vin, 14-pin DIP (N-14), -40 to 85 degC, Pb-Free; Manufacturer: Linear Technology; PartNumber: LT1160IN#PBF; DatasheetVersion: Rev. B; PackageVersion: Rev. I, 07/2011; PackageReference: N-14; PackageDescription: 14-Pin PDIP, Body 19.558 x 6.477 mm, Pitch 2.54 mm; Supplier 1: Digi-Key; Supplier Part Number 1: LT1160IN#PBF-ND; RoHS: TRUE; Mounting Technology: Through Hole; ComponentLink1Description: Manufacturer URL; ComponentLink1URL: http://www.linear.com/; ComponentLink2Description: Datasheet; ComponentLink2URL: http://cds.linear.com/docs/en/datasheet/11602fb.pdf; ComponentLink3Description: Package Specification; ComponentLink3URL: http://cds.linear.com/docs/en/packaging/05081510_I_N14.pdf
footprint LT-N-14 (DIP, 14-Leads, Body 19.558x6.477mm, Pitch 2.54mm)
pins: 1 SV+ (power) "Main Signal Supply. Must be closely decoupled to the signal ground Pin 5.", 2 IN TOP (in) "Top Driver Input. Pin 2 is disabled when Pin 3 is high. A 3k input resistor followed by a 5V internal clamp prevents saturation of the input transistors.", 3 IN BOTTOM (in) "Bottom Driver Input. Pin 3 is disabled when Pin 2 is high. A 3k input resistor followed by a 5V internal clamp prevents saturation of the input transistors.", 4 ~{UV OUT} (oc) "Undervoltage Output. Open collector NPN output which turns on when V + drops below the undervoltage threshold.", 5 SGND (power) "Small Signal Ground. Must be routed separately from other grounds to the system ground.", 6 PGND (power) "Bottom Driver Power Ground. Connects to source of bottom N-channel MOSFET.", 7 NC, 8 B GATE FB "Bottom Gate Feedback. Must connect directly to the bottom power MOSFET gate. The top MOSFET turn-on is inhibited until Pin 8 has discharged to below 2.5V.", 9 B GATE DR (out) "Bottom Gate Drive. The high current drive point for the bottom MOSFET. When a gate resistor is used it is inserted between Pin 9 and the gate of the MOSFET.", 10 PV+ (power) "Bottom Driver Supply. Must be connected to the same supply as Pin 1.", 11 T SOURCE "Top Driver Return. Connects to the top MOSFET source and the low side of the bootstrap capacitor.", 12 T GATE FB "Top Gate Feedback. Must connect directly to the top power MOSFET gate. The bottom MOSFET turn-on is inhibited until V12 - V11 has discharged to below 2.9V.", 13 T GATE DR (out) "Top Gate Drive. The high current drive point for the top MOSFET. When a gate resistor is used it is inserted between Pin 13 and the gate of the MOSFET.", 14 BOOST "Top Driver Supply. Connects to the high side of the bootstrap capacitor."

## LT1160IS#PBF
designator U?
Input UV Lockout, High Side Gate Drive UV Lockout, 9 to 60 V Vin, 14-pin SOIC (S-14), -40 to 85 degC, Pb-Free; Manufacturer: Linear Technology; PartNumber: LT1160IS#PBF; DatasheetVersion: Rev. B; PackageVersion: Rev. G, 03/2012; PackageReference: S-14; PackageDescription: 14-Pin Plastic Small Outline, Body 8.65 x 3.9 mm, Pitch 1.27 mm; Supplier 1: Digi-Key; Supplier Part Number 1: LT1160IS#PBF-ND; RoHS: TRUE; Mounting Technology: Surface Mount; ComponentLink1Description: Manufacturer URL; ComponentLink1URL: http://www.linear.com/; ComponentLink2Description: Datasheet; ComponentLink2URL: http://cds.linear.com/docs/en/datasheet/11602fb.pdf; ComponentLink3Description: Package Specification; ComponentLink3URL: http://cds.linear.com/docs/en/packaging/05081610_G_S14.pdf
footprint LT-S-14_N (SOIC, 14-Leads, Body 8.7x4mm, Pitch 1.27mm, IPC Medium Density)
footprint LT-S-14_L (SOIC, 14-Leads, Body 8.7x4mm, Pitch 1.27mm, IPC High Density)
footprint LT-S-14_M (SOIC, 14-Leads, Body 8.7x4mm, Pitch 1.27mm, IPC Low Density)
pins: 1 SV+ (power) "Main Signal Supply. Must be closely decoupled to the signal ground Pin 5.", 2 IN TOP (in) "Top Driver Input. Pin 2 is disabled when Pin 3 is high. A 3k input resistor followed by a 5V internal clamp prevents saturation of the input transistors.", 3 IN BOTTOM (in) "Bottom Driver Input. Pin 3 is disabled when Pin 2 is high. A 3k input resistor followed by a 5V internal clamp prevents saturation of the input transistors.", 4 ~{UV OUT} (oc) "Undervoltage Output. Open collector NPN output which turns on when V + drops below the undervoltage threshold.", 5 SGND (power) "Small Signal Ground. Must be routed separately from other grounds to the system ground.", 6 PGND (power) "Bottom Driver Power Ground. Connects to source of bottom N-channel MOSFET.", 7 NC, 8 B GATE FB "Bottom Gate Feedback. Must connect directly to the bottom power MOSFET gate. The top MOSFET turn-on is inhibited until Pin 8 has discharged to below 2.5V.", 9 B GATE DR (out) "Bottom Gate Drive. The high current drive point for the bottom MOSFET. When a gate resistor is used it is inserted between Pin 9 and the gate of the MOSFET.", 10 PV+ (power) "Bottom Driver Supply. Must be connected to the same supply as Pin 1.", 11 T SOURCE "Top Driver Return. Connects to the top MOSFET source and the low side of the bootstrap capacitor.", 12 T GATE FB "Top Gate Feedback. Must connect directly to the top power MOSFET gate. The bottom MOSFET turn-on is inhibited until V12 - V11 has discharged to below 2.9V.", 13 T GATE DR (out) "Top Gate Drive. The high current drive point for the top MOSFET. When a gate resistor is used it is inserted between Pin 13 and the gate of the MOSFET.", 14 BOOST "Top Driver Supply. Connects to the high side of the bootstrap capacitor."

## LT1160IS#TRPBF
designator U?
Input UV Lockout, High Side Gate Drive UV Lockout, 9 to 60 V Vin, 14-pin SOIC (S-14), -40 to 85 degC, Pb-Free, Tape and Reel; Manufacturer: Linear Technology; PartNumber: LT1160IS#TRPBF; DatasheetVersion: Rev. B; PackageVersion: Rev. G, 03/2012; PackageReference: S-14; PackageDescription: 14-Pin Plastic Small Outline, Body 8.65 x 3.9 mm, Pitch 1.27 mm; Supplier 1: Digi-Key; Supplier Part Number 1: LT1160IS#TRPBF-ND; Packing: Tape and Reel; RoHS: TRUE; Mounting Technology: Surface Mount; ComponentLink1Description: Manufacturer URL; ComponentLink1URL: http://www.linear.com/; ComponentLink2Description: Datasheet; ComponentLink2URL: http://cds.linear.com/docs/en/datasheet/11602fb.pdf; ComponentLink3Description: Package Specification; ComponentLink3URL: http://cds.linear.com/docs/en/packaging/05081610_G_S14.pdf
footprint LT-S-14_N (SOIC, 14-Leads, Body 8.7x4mm, Pitch 1.27mm, IPC Medium Density)
footprint LT-S-14_L (SOIC, 14-Leads, Body 8.7x4mm, Pitch 1.27mm, IPC High Density)
footprint LT-S-14_M (SOIC, 14-Leads, Body 8.7x4mm, Pitch 1.27mm, IPC Low Density)
pins: 1 SV+ (power) "Main Signal Supply. Must be closely decoupled to the signal ground Pin 5.", 2 IN TOP (in) "Top Driver Input. Pin 2 is disabled when Pin 3 is high. A 3k input resistor followed by a 5V internal clamp prevents saturation of the input transistors.", 3 IN BOTTOM (in) "Bottom Driver Input. Pin 3 is disabled when Pin 2 is high. A 3k input resistor followed by a 5V internal clamp prevents saturation of the input transistors.", 4 ~{UV OUT} (oc) "Undervoltage Output. Open collector NPN output which turns on when V + drops below the undervoltage threshold.", 5 SGND (power) "Small Signal Ground. Must be routed separately from other grounds to the system ground.", 6 PGND (power) "Bottom Driver Power Ground. Connects to source of bottom N-channel MOSFET.", 7 NC, 8 B GATE FB "Bottom Gate Feedback. Must connect directly to the bottom power MOSFET gate. The top MOSFET turn-on is inhibited until Pin 8 has discharged to below 2.5V.", 9 B GATE DR (out) "Bottom Gate Drive. The high current drive point for the bottom MOSFET. When a gate resistor is used it is inserted between Pin 9 and the gate of the MOSFET.", 10 PV+ (power) "Bottom Driver Supply. Must be connected to the same supply as Pin 1.", 11 T SOURCE "Top Driver Return. Connects to the top MOSFET source and the low side of the bootstrap capacitor.", 12 T GATE FB "Top Gate Feedback. Must connect directly to the top power MOSFET gate. The bottom MOSFET turn-on is inhibited until V12 - V11 has discharged to below 2.9V.", 13 T GATE DR (out) "Top Gate Drive. The high current drive point for the top MOSFET. When a gate resistor is used it is inserted between Pin 13 and the gate of the MOSFET.", 14 BOOST "Top Driver Supply. Connects to the high side of the bootstrap capacitor."